# Altium schematic symbol library 2017_Ozone.SchLib: 12 symbols
Pins are listed as number, name and electrical type; pins without a type are passive.

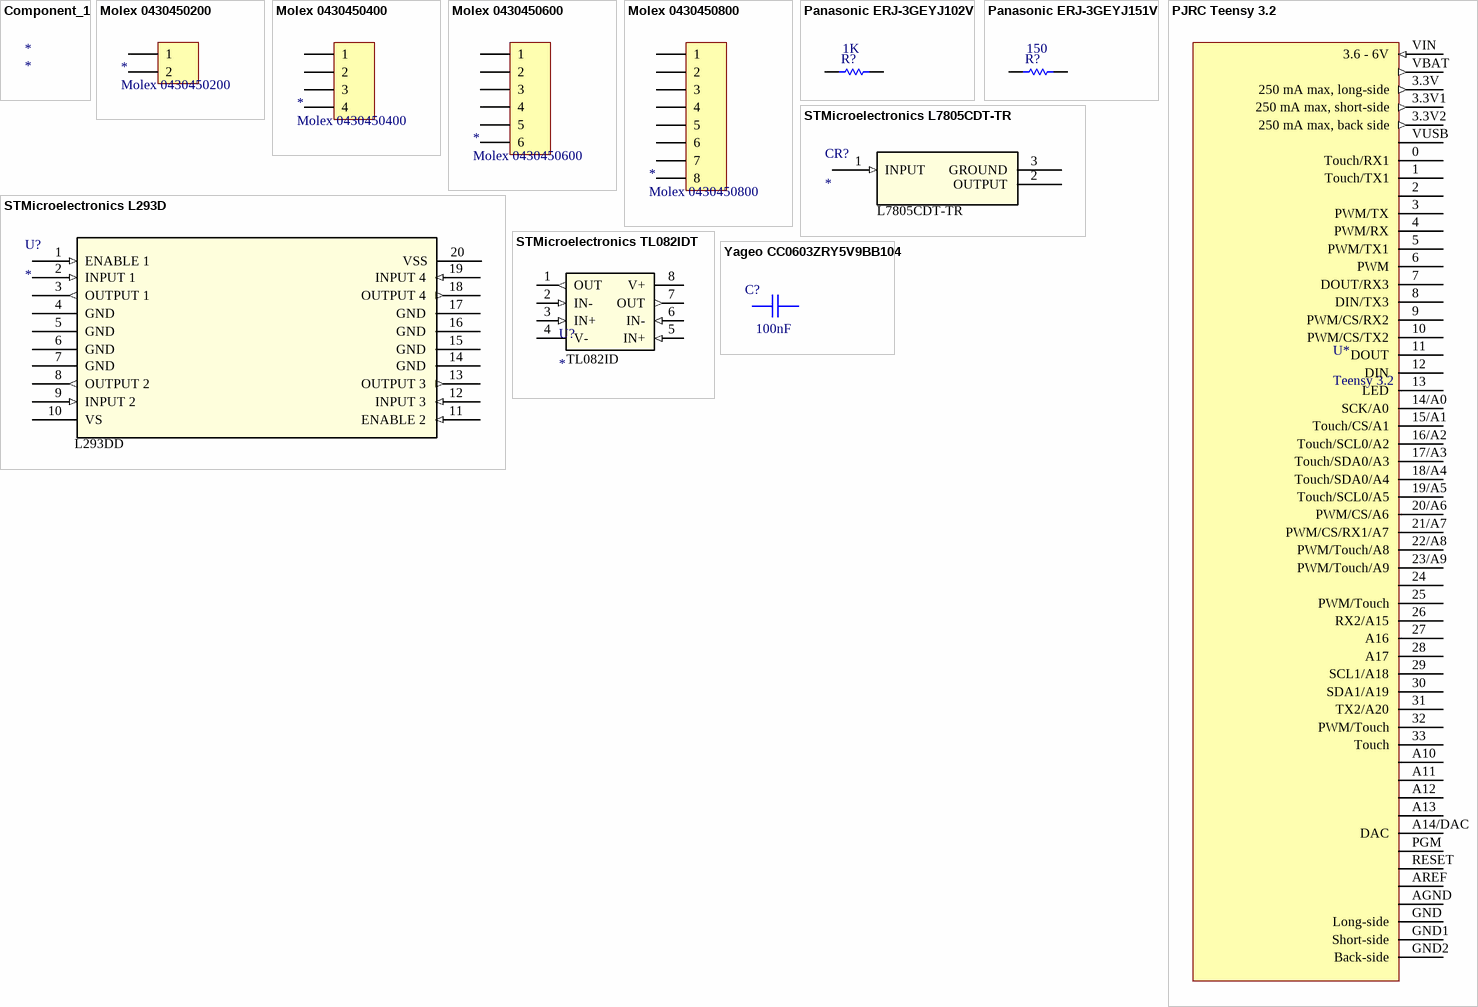
[diagram p0: symbols Component_1 to Yageo CC0603ZRY5V9BB104]

## Component_1
designator *

## Molex 0430450200
designator *
Supplier 1: Digi-Key; Supplier Part Number 1: WM1813-ND
footprint Molex 0430450200
pins: 1, 2

## Molex 0430450400
designator *
Supplier 1: Digi-Key; Supplier Part Number 1: WM1814-ND
footprint Molex 0430450400
pins: 1, 2, 3, 4

## Molex 0430450600
designator *
Supplier 1: Digi-Key; Supplier Part Number 1: WM1815-ND
footprint Molex 0430450600
pins: 1, 2, 3, 4, 5, 6

## Molex 0430450800
designator *
Supplier 1: Digi-Key; Supplier Part Number 1: WM1816-ND
footprint Molex 0430450800
pins: 1, 2, 3, 4, 5, 6, 7, 8

## Panasonic ERJ-3GEYJ102V
designator R?  value 1K  (hidden comment: *)
1k Ohm Resistor; Published: 8-Jun-2000; LatestRevisionDate: 17-Jul-2002; LatestRevisionNote: Re-released for DXP Platform.; PackageReference: AXIAL-0.3; Publisher: Altium Limited; PackageDescription: Axial Device, Thru-Hole; 2 Leads; 0.3 in Pin Spacing; Supplier 1: Digi-Key; Supplier Part Number 1: P1.0KGTR-ND
simulation model RESISTOR (Resistor)
signal-integrity model Res
footprint Panasonic ERJ-Series (1608) (Thick Film Chip Resistor)
pins: 1, 2

## Panasonic ERJ-3GEYJ151V
designator R?  value 150  (hidden comment: *)
150 Ohm Resistor; Published: 8-Jun-2000; LatestRevisionDate: 17-Jul-2002; LatestRevisionNote: Re-released for DXP Platform.; PackageReference: AXIAL-0.3; Publisher: Altium Limited; PackageDescription: Axial Device, Thru-Hole; 2 Leads; 0.3 in Pin Spacing; Supplier 1: Digi-Key; Supplier Part Number 1: P150GTR-ND
simulation model RESISTOR (Resistor)
signal-integrity model Res
footprint Panasonic ERJ-Series (1608) (Thick Film Chip Resistor)
pins: 1, 2

## PJRC Teensy 3.2
designator U*, comment Teensy 3.2
Teensy 3.2 Development Board; Supplier 1: Digi-Key; Supplier Part Number 1: 1568-1231-ND
footprint PJRC TEENSY 3.2
pins: 0 Touch/RX1, 1 Touch/TX1, 2, 3 PWM/TX, 3.3V 250 mA max, long-side (out), 3.3V1 250 mA max, short-side (out), 3.3V2 250 mA max, back side (out), 4 PWM/RX, 5 PWM/TX1, 6 PWM, 7 DOUT/RX3, 8 DIN/TX3, 9 PWM/CS/RX2, 10 PWM/CS/TX2, 11 DOUT, 12 DIN, 13 LED, 14/A0 SCK/A0, 15/A1 Touch/CS/A1, 16/A2 Touch/SCL0/A2, 17/A3 Touch/SDA0/A3, 18/A4 Touch/SDA0/A4, 19/A5 Touch/SCL0/A5, 20/A6 PWM/CS/A6, 21/A7 PWM/CS/RX1/A7, 22/A8 PWM/Touch/A8, 23/A9 PWM/Touch/A9, 24, 25 PWM/Touch, 26 RX2/A15, 27 A16, 28 A17, 29 SCL1/A18, 30 SDA1/A19, 31 TX2/A20, 32 PWM/Touch, 33 Touch, A10, A11, A12, A13, A14/DAC DAC, AGND, AREF, GND Long-side, GND1 Short-side, GND2 Back-side, PGM, RESET, VBAT (out), VIN 3.6 - 6V (in), VUSB
2 alternate drawings of the same symbol

## STMicroelectronics L293D
designator U?  Manufacturer_Part_Number: L293DD
Bipolar Motor Driver Parallel; Vendor: ST Microelectronics; Input_Type: Non-Inverting; Number_of_Outputs: 4; Current_-_Output_/_Channel: 600mA; Current_-_Peak_Output: 1.2A; Voltage_-_Supply: 4.5 V ~ 36 V; Operating_Temperature: -40Â°C ~ 150Â°C; Mounting_Type: Surface Mount; C: Copyright (C) 2015 Accelerated Designs. All rights reserved; DigiKeyPartNumber: 497-1390-5-ND; Quantity_Available: 0; Copyright: Copyright (C) 2015 Accelerated Designs. All rights reserved; DataSheet: http://www.st.com/internet/com/TECHNICAL_RESOURCES/TECHNICAL_LITERATURE/DATASHEET/CD00000059.pdf; Type: Half Bridge; On-State_Resistance: -; Package_/_Case: 20-SOIC (0.295", 7.50mm Width); Supplier_Device_Package: 20-SOIC; Packaging: Tube; Value: Value; RefDes: RefDes; Supplier 1: Digi-Key; Supplier Part Number 1: 497-1390-5-ND
footprint STMicroelectronics L293D (20-SOIC) (H-Bridge)
pins: 1 ENABLE 1 (in), 2 INPUT 1 (in), 3 OUTPUT 1 (out), 4 GND, 5 GND, 6 GND, 7 GND, 8 OUTPUT 2 (out), 9 INPUT 2 (in), 10 VS, 11 ENABLE 2 (in), 12 INPUT 3 (in), 13 OUTPUT 3 (out), 14 GND, 15 GND, 16 GND, 17 GND, 18 OUTPUT 4 (out), 19 INPUT 4 (in), 20 VSS

## STMicroelectronics L7805CDT-TR
designator CR?  Manufacturer_Part_Number: L7805CDT-TR
Linear Voltage Regulator IC Positive Fixed Output 5V 1.5A D-Pak; Vendor: ST Microelectronics; Voltage_-_Input: Up to 35V; Voltage_-_Dropout_(Typical): 2V @ 1A; Number_of_Regulators: 1; Operating_Temperature: 0Â°C ~ 125Â°C; Mounting_Type: Surface Mount; C: Copyright (C) 2015 Accelerated Designs. All rights reserved; DigiKeyPartNumber: 497-7255-2-ND; Quantity_Available: 112500; Copyright: Copyright (C) 2015 Accelerated Designs. All rights reserved; DataSheet: http://www.st.com/internet/com/TECHNICAL_RESOURCES/TECHNICAL_LITERATURE/DATASHEET/CD00000444.pdf; Regulator_Topology: Positive Fixed; Voltage_-_Output: 5V; Current_-_Output: 1.5A; Current_-_Limit_(Min): -; Package_/_Case: TO-252-3, DPak (2 Leads + Tab), SC-63; Supplier_Device_Package: D-Pak; Packaging: Tape &amp; Reel (TR); Value: Value; Type: Type; RefDes: RefDes; Supplier 1: Digi-Key; Supplier Part Number 1: 497-7255-2-ND
footprint STMicroelectronics L7805CDT-TR (Linear Voltage Regulator IC Positive Fixed Output 5V 1.5A D-Pak)
pins: 1 INPUT (in), 2 OUTPUT, 3 GROUND

## STMicroelectronics TL082IDT
designator U?  MANUFACTURER_PART_NUMBER: TL082ID
IC OPAMP JFET 4MHZ 8SO; VENDOR: ST Microelectronics; Amplifier_Type: J-FET; Number_of_Circuits: 2; Slew_Rate: 13 V/Âµs; Gain_Bandwidth_Product: 3MHz; Current_-_Input_Bias: 30pA; Voltage_-_Input_Offset: 3000ÂµV; Current_-_Supply: 1.4mA; Voltage_-_Supply,_Single/Dual_(Â±): 7 V ~ 36 V, Â±3.5 V ~ 18 V; Operating_Temperature: -40Â°C ~ 85Â°C; Mounting_Type: Surface Mount; C: Copyright (C) 2015 Accelerated Designs. All rights reserved; DigiKeyPartNumber: 296-7209-5-ND; Quantity_Available: 3461; Copyright: Copyright (C) 2015 Accelerated Designs. All rights reserved; DataSheet: http://www.ti.com/lit/ds/symlink/tl081a.pdf; Output_Type: -; -3db_Bandwidth: -; Current_-_Output_/_Channel: -; Package_/_Case: 8-SOIC (0.154", 3.90mm Width); Supplier_Device_Package: 8-SOIC; Packaging: Tube; Value: Value; Type: Type; RefDes: RefDes; Supplier 1: Digi-Key; Supplier Part Number 1: 497-2214-2-ND
footprint STMicroelectronics TL082IDT (8-SOIC) (Op Amp)
pins: 1 OUT (out), 2 IN- (in), 3 IN+ (in), 4 V- (power), 5 IN+ (in), 6 IN- (in), 7 OUT (out), 8 V+ (power)

## Yageo CC0603ZRY5V9BB104
designator C?  value 100nF  (hidden comment: *)
100 nF Capacitor; Manufacturer_Part_Number: CC0603ZRY5V9BB104; Supplier 1: Digi-Key; Supplier Part Number 1: 311-1343-6-ND
footprint Yageo CC0603ZRY5V9BB104 (1608) (CAP CER 0.1UF 50V Y5V 0603)
pins: 1, 2